# EAGLE library part PINHD-2X22 (library pinhead)
PIN HEADER
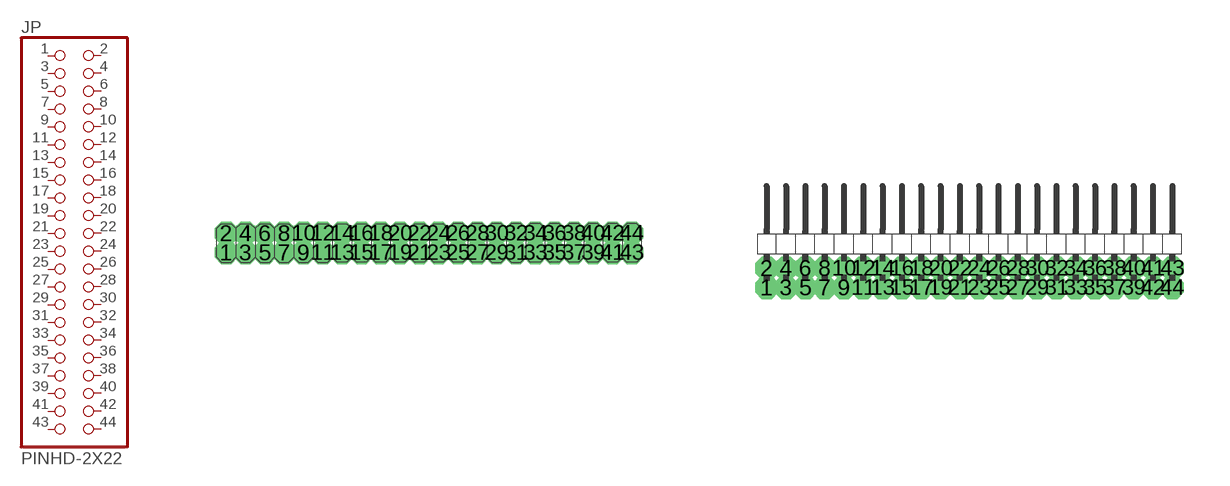
[diagram p38: symbol with the pads of 2X22; footprints 2X22, 2X22/90]

Designator prefix JP

## PINHD-2X22  [2X22]
1  1  pas
2  2  pas
3  3  pas
4  4  pas
5  5  pas
6  6  pas
7  7  pas
8  8  pas
9  9  pas
10  10  pas
11  11  pas
12  12  pas
13  13  pas
14  14  pas
15  15  pas
16  16  pas
17  17  pas
18  18  pas
19  19  pas
20  20  pas
21  21  pas
22  22  pas
23  23  pas
24  24  pas
25  25  pas
26  26  pas
27  27  pas
28  28  pas
29  29  pas
30  30  pas
31  31  pas
32  32  pas
33  33  pas
34  34  pas
35  35  pas
36  36  pas
37  37  pas
38  38  pas
39  39  pas
40  40  pas
41  41  pas
42  42  pas
43  43  pas
44  44  pas

## PINHD-2X22/90  [2X22/90]
Pads as for 2X22

## Footprint 2X22 (pad centres in mm)
PIN HEADER
drill 0.254 octagon: 1 -6.35,-0.318; 2 -6.35,0.318; 3 -5.715,-0.318; 4 -5.715,0.318; 5 -5.08,-0.318; 6 -5.08,0.318; 7 -4.445,-0.318; 8 -4.445,0.318; 9 -3.81,-0.318; 10 -3.81,0.318; 11 -3.175,-0.318; 12 -3.175,0.318; 13 -2.54,-0.318; 14 -2.54,0.318; 15 -1.905,-0.318; 16 -1.905,0.318; 17 -1.27,-0.318; 18 -1.27,0.318; 19 -0.635,-0.318; 20 -0.635,0.318; 21 0,-0.318; 22 0,0.318; 23 0.635,-0.318; 24 0.635,0.318; 25 1.27,-0.318; 26 1.27,0.318; 27 1.905,-0.318; 28 1.905,0.318; 29 2.54,-0.318; 30 2.54,0.318; 31 3.175,-0.318; 32 3.175,0.318; 33 3.81,-0.318; 34 3.81,0.318; 35 4.445,-0.318; 36 4.445,0.318; 37 5.08,-0.318; 38 5.08,0.318; 39 5.715,-0.318; 40 5.715,0.318; 41 6.35,-0.318; 42 6.35,0.318; 43 6.985,-0.318; 44 6.985,0.318

## Footprint 2X22/90 (pad centres in mm)
PIN HEADER
drill 0.254 octagon: 1 -6.668,-1.587; 2 -6.668,-0.953; 3 -6.032,-1.587; 4 -6.032,-0.953; 5 -5.397,-1.587; 6 -5.397,-0.953; 7 -4.763,-1.587; 8 -4.763,-0.953; 9 -4.128,-1.587; 10 -4.128,-0.953; 11 -3.493,-1.587; 12 -3.493,-0.953; 13 -2.857,-1.587; 14 -2.857,-0.953; 15 -2.223,-1.587; 16 -2.223,-0.953; 17 -1.587,-1.587; 18 -1.587,-0.953; 19 -0.953,-1.587; 20 -0.953,-0.953; 21 -0.318,-1.587; 22 -0.318,-0.953; 23 0.318,-1.587; 24 0.318,-0.953; 25 0.953,-1.587; 26 0.953,-0.953; 27 1.587,-1.587; 28 1.587,-0.953; 29 2.223,-1.587; 30 2.223,-0.953; 31 2.857,-1.587; 32 2.857,-0.953; 33 3.493,-1.587; 34 3.493,-0.953; 35 4.128,-1.587; 36 4.128,-0.953; 37 4.763,-1.587; 38 4.763,-0.953; 39 5.397,-1.587; 40 5.397,-0.953; 41 6.032,-0.953; 42 6.032,-1.587; 43 6.668,-0.953; 44 6.668,-1.587